# Altium schematic symbol library HT66F002.Schlib: 1 symbol
Pins are listed as number, name and electrical type; pins without a type are passive.

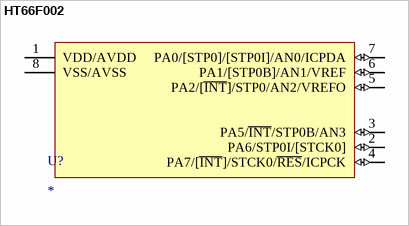
[diagram p0: symbol HT66F002]

## HT66F002
designator U?
Holtek 8bit MCU
footprint sop8
pins: 1 VDD/AVDD (power), 2 PA6/STP0I/[STCK0] (io), 3 PA5/~{INT}/STP0B/AN3 (io), 4 PA7/[~{INT}]/STCK0/~{RES}/ICPCK (io), 5 PA2/[~{INT}]/STP0/AN2/VREFO (io), 6 PA1/[STP0B]/AN1/VREF (io), 7 PA0/[STP0]/[STP0I]/AN0/ICPDA (io), 8 VSS/AVSS (power)